# Altium footprint library PCB - BATTERY HOLDER - MPD BA2032SM.PCBLIB: 1 footprints
Each footprint in its own frame and in the unit in brackets; x right, y up, seen from the top. Pads: shape width x height; smd on the part's side, far side on the other; paste and mask are expansions set on the pad; w line width, h text height; cw(c..) or ccw(c..) is an arc to the next point about the centre after c.
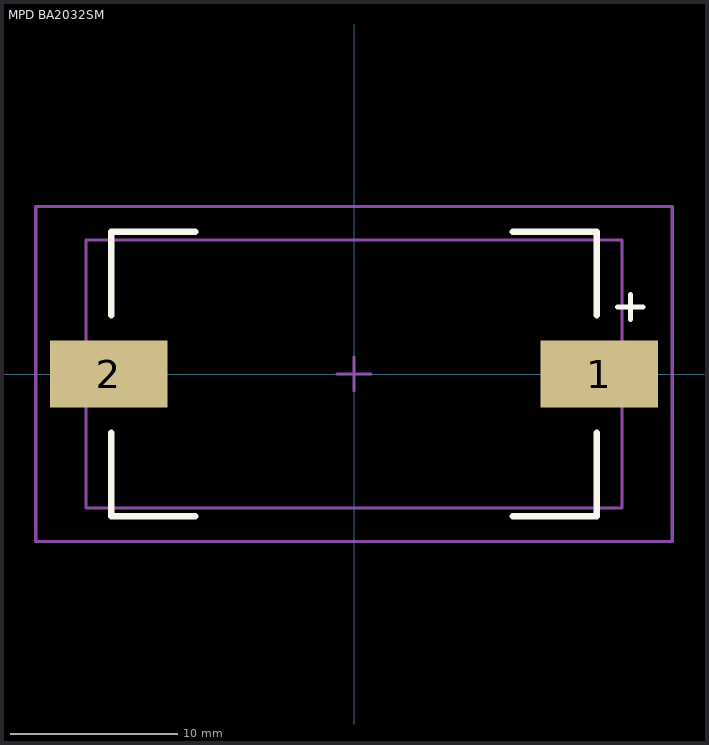
[diagram p0: the footprint, top view; thin cyan lines are the x and y axes]

## MPD BA2032SM [mm]
height 6.7
pads (2):
  rect 7x4 smd mask+0.2: 1(14.65,0) 2(-14.65,0)
Top Overlay:
  lines w0.3: 15.75,4 17.25,4 ; 16.5,3.25 16.5,4.75
  lines w0.4: -14.5,-3.5 -14.5,-8.5 -9.5,-8.5 ; -14.5,3.5 -14.5,8.5 -9.5,8.5 ; 9.5,-8.5 14.5,-8.5 14.5,-3.5 ; 9.5,8.5 14.5,8.5 14.5,3.5
Mechanical 1:
  lines w0.2: -16,-8 -16,8 16,8 16,-8 -16,-8
Mechanical 15:
  lines w0.2: -1,0 1,0 ; 0,-1 0,1 ; -19,-10 19,-10 19,10 -19,10 -19,-10
3D body "MPD - BA2032SM.STEP": height 6.7, standoff 0, extent -16.102,-8 15.898,8